# Altium integrated library Altium_WCAP-CSGP (rev20a).IntLib: 939 symbols (part 13 of 16)
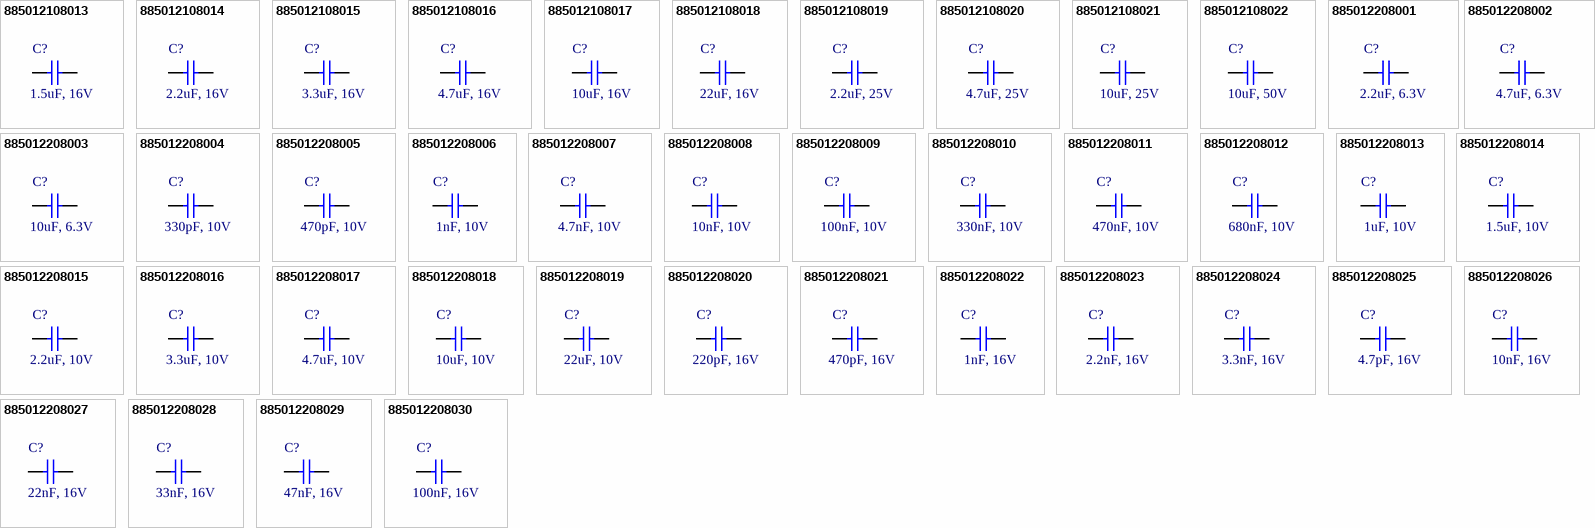
[diagram p39: symbols 885012108013 to 885012208030]

## 885012208026
designator C?, comment 10nF, 16V
WCAP-CSGP Multilayer Ceramic Chip Capacitor, General Purpose, size 1206, X7R, 10nF, 16V; Manufacturer Part Number: 885012208026; Manufacturer: Wurth Elektronik; Rated Voltage: 16VDC; Isolation Resistance: >=10GOhm; Capacitance Tolerance: +/-10%; Technical Reference: X7R1206103K016DFCT10000; ComponentLink1Description: Manufacturer; ComponentLink1URL: http://www.we-online.de; ComponentLink2Description: Datasheet; ComponentLink2URL: https://www.we-online.com/catalog/datasheet/885012208026.pdf; Operating Temperature: -55 to +125degC; Packaging: Tape and Reel; Published Date: May 2020; Ceramic Type: X7R; Dissipation Factor: =<3.5%; Height: 0.8mm; Mounting Technology: SMT; Size: 1206; Capacitance: 10nF
footprint WCAP-CSGP_1206_H=0.8mm
pins: 1, 2

## 885012208027
designator C?, comment 22nF, 16V
WCAP-CSGP Multilayer Ceramic Chip Capacitor, General Purpose, size 1206, X7R, 22nF, 16V; Manufacturer Part Number: 885012208027; Manufacturer: Wurth Elektronik; Rated Voltage: 16VDC; Isolation Resistance: >=10GOhm; Capacitance Tolerance: +/-10%; Technical Reference: X7R1206223K016DFCT10000; ComponentLink1Description: Manufacturer; ComponentLink1URL: http://www.we-online.de; ComponentLink2Description: Datasheet; ComponentLink2URL: https://www.we-online.com/catalog/datasheet/885012208027.pdf; Operating Temperature: -55 to +125degC; Packaging: Tape and Reel; Published Date: May 2020; Ceramic Type: X7R; Dissipation Factor: =<3.5%; Height: 0.8mm; Mounting Technology: SMT; Size: 1206; Capacitance: 22nF
footprint WCAP-CSGP_1206_H=0.8mm
pins: 1, 2

## 885012208028
designator C?, comment 33nF, 16V
WCAP-CSGP Multilayer Ceramic Chip Capacitor, General Purpose, size 1206, X7R, 33nF, 16V; Manufacturer Part Number: 885012208028; Manufacturer: Wurth Elektronik; Rated Voltage: 16VDC; Isolation Resistance: >=10GOhm; Capacitance Tolerance: +/-10%; Technical Reference: X7R1206333K016DFCT10000; ComponentLink1Description: Manufacturer; ComponentLink1URL: http://www.we-online.de; ComponentLink2Description: Datasheet; ComponentLink2URL: https://www.we-online.com/catalog/datasheet/885012208028.pdf; Operating Temperature: -55 to +125degC; Packaging: Tape and Reel; Published Date: May 2020; Ceramic Type: X7R; Dissipation Factor: =<3.5%; Height: 0.8mm; Mounting Technology: SMT; Size: 1206; Capacitance: 33nF
footprint WCAP-CSGP_1206_H=0.8mm
pins: 1, 2

## 885012208029
designator C?, comment 47nF, 16V
WCAP-CSGP Multilayer Ceramic Chip Capacitor, General Purpose, size 1206, X7R, 47nF, 16V; Manufacturer Part Number: 885012208029; Manufacturer: Wurth Elektronik; Rated Voltage: 16VDC; Isolation Resistance: >=10GOhm; Capacitance Tolerance: +/-10%; Technical Reference: X7R1206473K016DFCT10000; ComponentLink1Description: Manufacturer; ComponentLink1URL: http://www.we-online.de; ComponentLink2Description: Datasheet; ComponentLink2URL: https://www.we-online.com/catalog/datasheet/885012208029.pdf; Operating Temperature: -55 to +125degC; Packaging: Tape and Reel; Published Date: May 2020; Ceramic Type: X7R; Dissipation Factor: =<3.5%; Height: 0.8mm; Mounting Technology: SMT; Size: 1206; Capacitance: 47nF
footprint WCAP-CSGP_1206_H=0.8mm
pins: 1, 2

## 885012208030
designator C?, comment 100nF, 16V
WCAP-CSGP Multilayer Ceramic Chip Capacitor, General Purpose, size 1206, X7R, 100nF, 16V; Manufacturer Part Number: 885012208030; Manufacturer: Wurth Elektronik; Rated Voltage: 16VDC; Isolation Resistance: >=5GOhm; Capacitance Tolerance: +/-10%; Technical Reference: X7R1206104K016DFCT10000; ComponentLink1Description: Manufacturer; ComponentLink1URL: http://www.we-online.de; ComponentLink2Description: Datasheet; ComponentLink2URL: https://www.we-online.com/catalog/datasheet/885012208030.pdf; Operating Temperature: -55 to +125degC; Packaging: Tape and Reel; Published Date: May 2020; Ceramic Type: X7R; Dissipation Factor: =<3.5%; Height: 0.8mm; Mounting Technology: SMT; Size: 1206; Capacitance: 100nF
footprint WCAP-CSGP_1206_H=0.8mm
pins: 1, 2

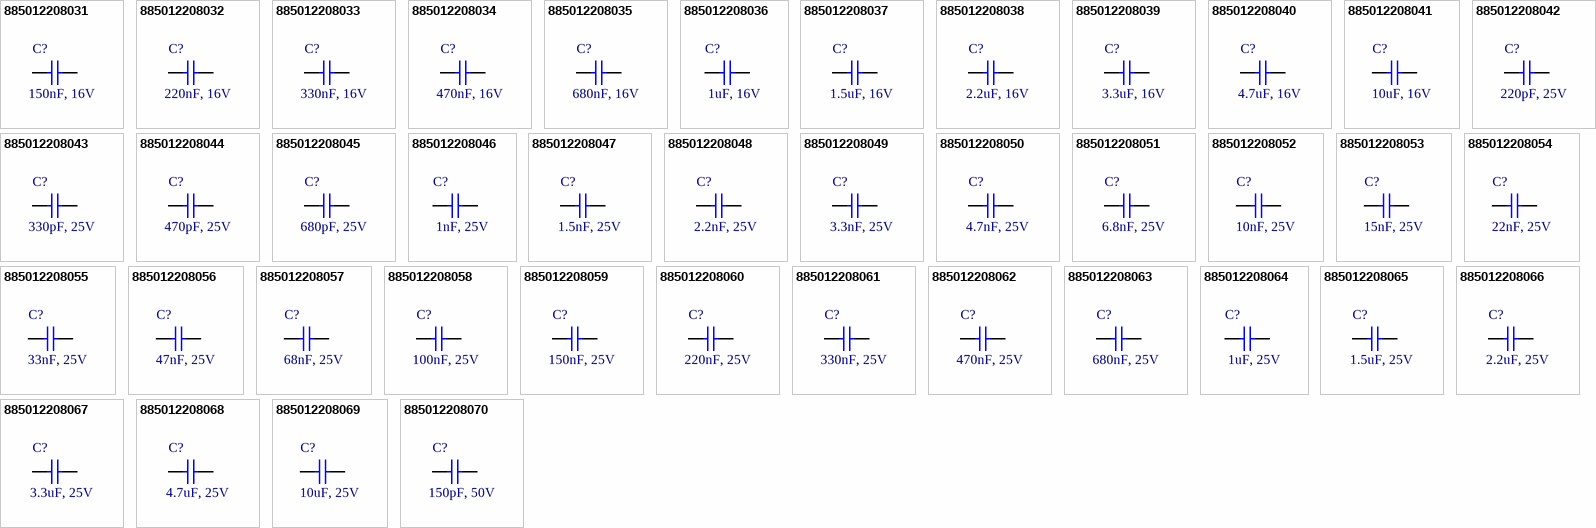
[diagram p20: symbols 885012208031 to 885012208070]

## 885012208031
designator C?, comment 150nF, 16V
WCAP-CSGP Multilayer Ceramic Chip Capacitor, General Purpose, size 1206, X7R, 150nF, 16V; Manufacturer Part Number: 885012208031; Manufacturer: Wurth Elektronik; Rated Voltage: 16VDC; Isolation Resistance: >=3.3GOhm; Capacitance Tolerance: +/-10%; Technical Reference: X7R1206154K016DFCT10000; ComponentLink1Description: Manufacturer; ComponentLink1URL: http://www.we-online.de; ComponentLink2Description: Datasheet; ComponentLink2URL: https://www.we-online.com/catalog/datasheet/885012208031.pdf; Operating Temperature: -55 to +125degC; Packaging: Tape and Reel; Published Date: May 2020; Ceramic Type: X7R; Dissipation Factor: =<3.5%; Height: 0.95mm; Mounting Technology: SMT; Size: 1206; Capacitance: 150nF
footprint WCAP-CSGP_1206_H=0.95mm
pins: 1, 2

## 885012208032
designator C?, comment 220nF, 16V
WCAP-CSGP Multilayer Ceramic Chip Capacitor, General Purpose, size 1206, X7R, 220nF, 16V; Manufacturer Part Number: 885012208032; Manufacturer: Wurth Elektronik; Rated Voltage: 16VDC; Isolation Resistance: >=2.3GOhm; Capacitance Tolerance: +/-10%; Technical Reference: X7R1206224K016DFCT10000; ComponentLink1Description: Manufacturer; ComponentLink1URL: http://www.we-online.de; ComponentLink2Description: Datasheet; ComponentLink2URL: https://www.we-online.com/catalog/datasheet/885012208032.pdf; Operating Temperature: -55 to +125degC; Packaging: Tape and Reel; Published Date: May 2020; Ceramic Type: X7R; Dissipation Factor: =<3.5%; Height: 0.95mm; Mounting Technology: SMT; Size: 1206; Capacitance: 220nF
footprint WCAP-CSGP_1206_H=0.95mm
pins: 1, 2

## 885012208033
designator C?, comment 330nF, 16V
WCAP-CSGP Multilayer Ceramic Chip Capacitor, General Purpose, size 1206, X7R, 330nF, 16V; Manufacturer Part Number: 885012208033; Manufacturer: Wurth Elektronik; Rated Voltage: 16VDC; Isolation Resistance: >=1.5GOhm; Capacitance Tolerance: +/-10%; Technical Reference: X7R1206334K016DFCT10000; ComponentLink1Description: Manufacturer; ComponentLink1URL: http://www.we-online.de; ComponentLink2Description: Datasheet; ComponentLink2URL: https://www.we-online.com/catalog/datasheet/885012208033.pdf; Operating Temperature: -55 to +125degC; Packaging: Tape and Reel; Published Date: May 2020; Ceramic Type: X7R; Dissipation Factor: =<3.5%; Height: 0.95mm; Mounting Technology: SMT; Size: 1206; Capacitance: 330nF
footprint WCAP-CSGP_1206_H=0.95mm
pins: 1, 2

## 885012208034
designator C?, comment 470nF, 16V
WCAP-CSGP Multilayer Ceramic Chip Capacitor, General Purpose, size 1206, X7R, 470nF, 16V; Manufacturer Part Number: 885012208034; Manufacturer: Wurth Elektronik; Rated Voltage: 16VDC; Isolation Resistance: >=1.1GOhm; Capacitance Tolerance: +/-10%; Technical Reference: X7R1206474K016DFCT10000; ComponentLink1Description: Manufacturer; ComponentLink1URL: http://www.we-online.de; ComponentLink2Description: Datasheet; ComponentLink2URL: https://www.we-online.com/catalog/datasheet/885012208034.pdf; Operating Temperature: -55 to +125degC; Packaging: Tape and Reel; Published Date: May 2020; Ceramic Type: X7R; Dissipation Factor: =<3.5%; Height: 1.15mm; Mounting Technology: SMT; Size: 1206; Capacitance: 470nF
footprint WCAP-CSGP_1206_H=1.15mm
pins: 1, 2

## 885012208035
designator C?, comment 680nF, 16V
WCAP-CSGP Multilayer Ceramic Chip Capacitor, General Purpose, size 1206, X7R, 680nF, 16V; Manufacturer Part Number: 885012208035; Manufacturer: Wurth Elektronik; Rated Voltage: 16VDC; Isolation Resistance: >=0.7GOhm; Capacitance Tolerance: +/-10%; Technical Reference: X7R1206684K016DFCT10000; ComponentLink1Description: Manufacturer; ComponentLink1URL: http://www.we-online.de; ComponentLink2Description: Datasheet; ComponentLink2URL: https://www.we-online.com/catalog/datasheet/885012208035.pdf; Operating Temperature: -55 to +125degC; Packaging: Tape and Reel; Published Date: May 2020; Ceramic Type: X7R; Dissipation Factor: =<3.5%; Height: 1.15mm; Mounting Technology: SMT; Size: 1206; Capacitance: 680nF
footprint WCAP-CSGP_1206_H=1.15mm
pins: 1, 2

## 885012208036
designator C?, comment 1uF, 16V
WCAP-CSGP Multilayer Ceramic Chip Capacitor, General Purpose, size 1206, X7R, 1uF, 16V; Manufacturer Part Number: 885012208036; Manufacturer: Wurth Elektronik; Rated Voltage: 16VDC; Isolation Resistance: >=0.5GOhm; Capacitance Tolerance: +/-10%; Technical Reference: X7R1206105K016DFCT10000; ComponentLink1Description: Manufacturer; ComponentLink1URL: http://www.we-online.de; ComponentLink2Description: Datasheet; ComponentLink2URL: https://www.we-online.com/catalog/datasheet/885012208036.pdf; Operating Temperature: -55 to +125degC; Packaging: Tape and Reel; Published Date: May 2020; Ceramic Type: X7R; Dissipation Factor: =<3.5%; Height: 1.15mm; Mounting Technology: SMT; Size: 1206; Capacitance: 1uF
footprint WCAP-CSGP_1206_H=1.15mm
pins: 1, 2

## 885012208037
designator C?, comment 1.5uF, 16V
WCAP-CSGP Multilayer Ceramic Chip Capacitor, General Purpose, size 1206, X7R, 1.5uF, 16V; Manufacturer Part Number: 885012208037; Manufacturer: Wurth Elektronik; Rated Voltage: 16VDC; Isolation Resistance: >=0.3GOhm; Capacitance Tolerance: +/-10%; Technical Reference: X7R1206155K016DFCT10000; ComponentLink1Description: Manufacturer; ComponentLink1URL: http://www.we-online.de; ComponentLink2Description: Datasheet; ComponentLink2URL: https://www.we-online.com/catalog/datasheet/885012208037.pdf; Operating Temperature: -55 to +125degC; Packaging: Tape and Reel; Published Date: May 2020; Ceramic Type: X7R; Dissipation Factor: =<3.5%; Height: 1.15mm; Mounting Technology: SMT; Size: 1206; Capacitance: 1.5uF
footprint WCAP-CSGP_1206_H=1.15mm
pins: 1, 2

## 885012208038
designator C?, comment 2.2uF, 16V
WCAP-CSGP Multilayer Ceramic Chip Capacitor, General Purpose, size 1206, X7R, 2.2uF, 16V; Manufacturer Part Number: 885012208038; Manufacturer: Wurth Elektronik; Rated Voltage: 16VDC; Isolation Resistance: >=0.2GOhm; Capacitance Tolerance: +/-10%; Technical Reference: X7R1206225K016DFCT10000; ComponentLink1Description: Manufacturer; ComponentLink1URL: http://www.we-online.de; ComponentLink2Description: Datasheet; ComponentLink2URL: https://www.we-online.com/catalog/datasheet/885012208038.pdf; Operating Temperature: -55 to +125degC; Packaging: Tape and Reel; Published Date: May 2020; Ceramic Type: X7R; Dissipation Factor: =<5%; Height: 1.15mm; Mounting Technology: SMT; Size: 1206; Capacitance: 2.2uF
footprint WCAP-CSGP_1206_H=1.15mm
pins: 1, 2

## 885012208039
designator C?, comment 3.3uF, 16V
WCAP-CSGP Multilayer Ceramic Chip Capacitor, General Purpose, size 1206, X7R, 3.3uF, 16V; Manufacturer Part Number: 885012208039; Manufacturer: Wurth Elektronik; Rated Voltage: 16VDC; Isolation Resistance: >=0.2GOhm; Capacitance Tolerance: +/-10%; Technical Reference: X7R1206335K016DFCT10000; ComponentLink1Description: Manufacturer; ComponentLink1URL: http://www.we-online.de; ComponentLink2Description: Datasheet; ComponentLink2URL: https://www.we-online.com/catalog/datasheet/885012208039.pdf; Operating Temperature: -55 to +125degC; Packaging: Tape and Reel; Published Date: May 2020; Ceramic Type: X7R; Dissipation Factor: =<5%; Height: 1.6mm; Mounting Technology: SMT; Size: 1206; Capacitance: 3.3uF
footprint WCAP-CSGP_1206_H=1.6mm
pins: 1, 2

## 885012208040
designator C?, comment 4.7uF, 16V
WCAP-CSGP Multilayer Ceramic Chip Capacitor, General Purpose, size 1206, X7R, 4.7uF, 16V; Manufacturer Part Number: 885012208040; Manufacturer: Wurth Elektronik; Rated Voltage: 16VDC; Isolation Resistance: >=0.1GOhm; Capacitance Tolerance: +/-10%; Technical Reference: X7R1206475K016DFCT10000; ComponentLink1Description: Manufacturer; ComponentLink1URL: http://www.we-online.de; ComponentLink2Description: Datasheet; ComponentLink2URL: https://www.we-online.com/catalog/datasheet/885012208040.pdf; Operating Temperature: -55 to +125degC; Packaging: Tape and Reel; Published Date: May 2020; Ceramic Type: X7R; Dissipation Factor: =<10%; Height: 1.6mm; Mounting Technology: SMT; Size: 1206; Capacitance: 4.7uF
footprint WCAP-CSGP_1206_H=1.6mm
pins: 1, 2

## 885012208041
designator C?, comment 10uF, 16V
WCAP-CSGP Multilayer Ceramic Chip Capacitor, General Purpose, size 1206, X7R, 10uF, 16V; Manufacturer Part Number: 885012208041; Manufacturer: Wurth Elektronik; Rated Voltage: 16VDC; Isolation Resistance: >=0.01GOhm; Capacitance Tolerance: +/-10%; Technical Reference: X7R1206106K016DFCT10000; ComponentLink1Description: Manufacturer; ComponentLink1URL: http://www.we-online.de; ComponentLink2Description: Datasheet; ComponentLink2URL: https://www.we-online.com/catalog/datasheet/885012208041.pdf; Operating Temperature: -55 to +125degC; Packaging: Tape and Reel; Published Date: May 2020; Ceramic Type: X7R; Dissipation Factor: =<10%; Height: 1.6mm; Mounting Technology: SMT; Size: 1206; Capacitance: 10uF
footprint WCAP-CSGP_1206_H=1.6mm
pins: 1, 2

## 885012208042
designator C?, comment 220pF, 25V
WCAP-CSGP Multilayer Ceramic Chip Capacitor, General Purpose, size 1206, X7R, 220pF, 25V; Manufacturer Part Number: 885012208042; Manufacturer: Wurth Elektronik; Rated Voltage: 25VDC; Isolation Resistance: >=10GOhm; Capacitance Tolerance: +/-10%; Technical Reference: X7R1206221K025DFCT10000; ComponentLink1Description: Manufacturer; ComponentLink1URL: http://www.we-online.de; ComponentLink2Description: Datasheet; ComponentLink2URL: https://www.we-online.com/catalog/datasheet/885012208042.pdf; Operating Temperature: -55 to +125degC; Packaging: Tape and Reel; Published Date: May 2020; Ceramic Type: X7R; Dissipation Factor: =<3.5%; Height: 0.8mm; Mounting Technology: SMT; Size: 1206; Capacitance: 220pF
footprint WCAP-CSGP_1206_H=0.8mm
pins: 1, 2

## 885012208043
designator C?, comment 330pF, 25V
WCAP-CSGP Multilayer Ceramic Chip Capacitor, General Purpose, size 1206, X7R, 330pF, 25V; Manufacturer Part Number: 885012208043; Manufacturer: Wurth Elektronik; Rated Voltage: 25VDC; Isolation Resistance: >=10GOhm; Capacitance Tolerance: +/-10%; Technical Reference: X7R1206331K025DFCT10000; ComponentLink1Description: Manufacturer; ComponentLink1URL: http://www.we-online.de; ComponentLink2Description: Datasheet; ComponentLink2URL: https://www.we-online.com/catalog/datasheet/885012208043.pdf; Operating Temperature: -55 to +125degC; Packaging: Tape and Reel; Published Date: May 2020; Ceramic Type: X7R; Dissipation Factor: =<3.5%; Height: 0.8mm; Mounting Technology: SMT; Size: 1206; Capacitance: 330pF
footprint WCAP-CSGP_1206_H=0.8mm
pins: 1, 2

## 885012208044
designator C?, comment 470pF, 25V
WCAP-CSGP Multilayer Ceramic Chip Capacitor, General Purpose, size 1206, X7R, 470pF, 25V; Manufacturer Part Number: 885012208044; Manufacturer: Wurth Elektronik; Rated Voltage: 25VDC; Isolation Resistance: >=10GOhm; Capacitance Tolerance: +/-10%; Technical Reference: X7R1206471K025DFCT10000; ComponentLink1Description: Manufacturer; ComponentLink1URL: http://www.we-online.de; ComponentLink2Description: Datasheet; ComponentLink2URL: https://www.we-online.com/catalog/datasheet/885012208044.pdf; Operating Temperature: -55 to +125degC; Packaging: Tape and Reel; Published Date: May 2020; Ceramic Type: X7R; Dissipation Factor: =<3.5%; Height: 0.8mm; Mounting Technology: SMT; Size: 1206; Capacitance: 470pF
footprint WCAP-CSGP_1206_H=0.8mm
pins: 1, 2

## 885012208045
designator C?, comment 680pF, 25V
WCAP-CSGP Multilayer Ceramic Chip Capacitor, General Purpose, size 1206, X7R, 680pF, 25V; Manufacturer Part Number: 885012208045; Manufacturer: Wurth Elektronik; Rated Voltage: 25VDC; Isolation Resistance: >=10GOhm; Capacitance Tolerance: +/-10%; Technical Reference: X7R1206681K025DFCT10000; ComponentLink1Description: Manufacturer; ComponentLink1URL: http://www.we-online.de; ComponentLink2Description: Datasheet; ComponentLink2URL: https://www.we-online.com/catalog/datasheet/885012208045.pdf; Operating Temperature: -55 to +125degC; Packaging: Tape and Reel; Published Date: May 2020; Ceramic Type: X7R; Dissipation Factor: =<3.5%; Height: 0.8mm; Mounting Technology: SMT; Size: 1206; Capacitance: 680pF
footprint WCAP-CSGP_1206_H=0.8mm
pins: 1, 2

## 885012208046
designator C?, comment 1nF, 25V
WCAP-CSGP Multilayer Ceramic Chip Capacitor, General Purpose, size 1206, X7R, 1nF, 25V; Manufacturer Part Number: 885012208046; Manufacturer: Wurth Elektronik; Rated Voltage: 25VDC; Isolation Resistance: >=10GOhm; Capacitance Tolerance: +/-10%; Technical Reference: X7R1206102K025DFCT10000; ComponentLink1Description: Manufacturer; ComponentLink1URL: http://www.we-online.de; ComponentLink2Description: Datasheet; ComponentLink2URL: https://www.we-online.com/catalog/datasheet/885012208046.pdf; Operating Temperature: -55 to +125degC; Packaging: Tape and Reel; Published Date: May 2020; Ceramic Type: X7R; Dissipation Factor: =<3.5%; Height: 0.8mm; Mounting Technology: SMT; Size: 1206; Capacitance: 1nF
footprint WCAP-CSGP_1206_H=0.8mm
pins: 1, 2

## 885012208047
designator C?, comment 1.5nF, 25V
WCAP-CSGP Multilayer Ceramic Chip Capacitor, General Purpose, size 1206, X7R, 1.5nF, 25V; Manufacturer Part Number: 885012208047; Manufacturer: Wurth Elektronik; Rated Voltage: 25VDC; Isolation Resistance: >=10GOhm; Capacitance Tolerance: +/-10%; Technical Reference: X7R1206152K025DFCT10000; ComponentLink1Description: Manufacturer; ComponentLink1URL: http://www.we-online.de; ComponentLink2Description: Datasheet; ComponentLink2URL: https://www.we-online.com/catalog/datasheet/885012208047.pdf; Operating Temperature: -55 to +125degC; Packaging: Tape and Reel; Published Date: May 2020; Ceramic Type: X7R; Dissipation Factor: =<3.5%; Height: 0.8mm; Mounting Technology: SMT; Size: 1206; Capacitance: 1.5nF
footprint WCAP-CSGP_1206_H=0.8mm
pins: 1, 2

## 885012208048
designator C?, comment 2.2nF, 25V
WCAP-CSGP Multilayer Ceramic Chip Capacitor, General Purpose, size 1206, X7R, 2.2nF, 25V; Manufacturer Part Number: 885012208048; Manufacturer: Wurth Elektronik; Rated Voltage: 25VDC; Isolation Resistance: >=10GOhm; Capacitance Tolerance: +/-10%; Technical Reference: X7R1206222K025DFCT10000; ComponentLink1Description: Manufacturer; ComponentLink1URL: http://www.we-online.de; ComponentLink2Description: Datasheet; ComponentLink2URL: https://www.we-online.com/catalog/datasheet/885012208048.pdf; Operating Temperature: -55 to +125degC; Packaging: Tape and Reel; Published Date: May 2020; Ceramic Type: X7R; Dissipation Factor: =<3.5%; Height: 0.8mm; Mounting Technology: SMT; Size: 1206; Capacitance: 2.2nF
footprint WCAP-CSGP_1206_H=0.8mm
pins: 1, 2

## 885012208049
designator C?, comment 3.3nF, 25V
WCAP-CSGP Multilayer Ceramic Chip Capacitor, General Purpose, size 1206, X7R, 3.3nF, 25V; Manufacturer Part Number: 885012208049; Manufacturer: Wurth Elektronik; Rated Voltage: 25VDC; Isolation Resistance: >=10GOhm; Capacitance Tolerance: +/-10%; Technical Reference: X7R1206332K025DFCT10000; ComponentLink1Description: Manufacturer; ComponentLink1URL: http://www.we-online.de; ComponentLink2Description: Datasheet; ComponentLink2URL: https://www.we-online.com/catalog/datasheet/885012208049.pdf; Operating Temperature: -55 to +125degC; Packaging: Tape and Reel; Published Date: May 2020; Ceramic Type: X7R; Dissipation Factor: =<3.5%; Height: 0.8mm; Mounting Technology: SMT; Size: 1206; Capacitance: 3.3nF
footprint WCAP-CSGP_1206_H=0.8mm
pins: 1, 2

## 885012208050
designator C?, comment 4.7nF, 25V
WCAP-CSGP Multilayer Ceramic Chip Capacitor, General Purpose, size 1206, X7R, 4.7nF, 25V; Manufacturer Part Number: 885012208050; Manufacturer: Wurth Elektronik; Rated Voltage: 25VDC; Isolation Resistance: >=10GOhm; Capacitance Tolerance: +/-10%; Technical Reference: X7R1206472K025DFCT10000; ComponentLink1Description: Manufacturer; ComponentLink1URL: http://www.we-online.de; ComponentLink2Description: Datasheet; ComponentLink2URL: https://www.we-online.com/catalog/datasheet/885012208050.pdf; Operating Temperature: -55 to +125degC; Packaging: Tape and Reel; Published Date: May 2020; Ceramic Type: X7R; Dissipation Factor: =<3.5%; Height: 0.8mm; Mounting Technology: SMT; Size: 1206; Capacitance: 4.7nF
footprint WCAP-CSGP_1206_H=0.8mm
pins: 1, 2

## 885012208051
designator C?, comment 6.8nF, 25V
WCAP-CSGP Multilayer Ceramic Chip Capacitor, General Purpose, size 1206, X7R, 6.8nF, 25V; Manufacturer Part Number: 885012208051; Manufacturer: Wurth Elektronik; Rated Voltage: 25VDC; Isolation Resistance: >=10GOhm; Capacitance Tolerance: +/-10%; Technical Reference: X7R1206682K025DFCT10000; ComponentLink1Description: Manufacturer; ComponentLink1URL: http://www.we-online.de; ComponentLink2Description: Datasheet; ComponentLink2URL: https://www.we-online.com/catalog/datasheet/885012208051.pdf; Operating Temperature: -55 to +125degC; Packaging: Tape and Reel; Published Date: May 2020; Ceramic Type: X7R; Dissipation Factor: =<3.5%; Height: 0.8mm; Mounting Technology: SMT; Size: 1206; Capacitance: 6.8nF
footprint WCAP-CSGP_1206_H=0.8mm
pins: 1, 2

## 885012208052
designator C?, comment 10nF, 25V
WCAP-CSGP Multilayer Ceramic Chip Capacitor, General Purpose, size 1206, X7R, 10nF, 25V; Manufacturer Part Number: 885012208052; Manufacturer: Wurth Elektronik; Rated Voltage: 25VDC; Isolation Resistance: >=10GOhm; Capacitance Tolerance: +/-10%; Technical Reference: X7R1206103K025DFCT10000; ComponentLink1Description: Manufacturer; ComponentLink1URL: http://www.we-online.de; ComponentLink2Description: Datasheet; ComponentLink2URL: https://www.we-online.com/catalog/datasheet/885012208052.pdf; Operating Temperature: -55 to +125degC; Packaging: Tape and Reel; Published Date: May 2020; Ceramic Type: X7R; Dissipation Factor: =<3.5%; Height: 0.8mm; Mounting Technology: SMT; Size: 1206; Capacitance: 10nF
footprint WCAP-CSGP_1206_H=0.8mm
pins: 1, 2

## 885012208053
designator C?, comment 15nF, 25V
WCAP-CSGP Multilayer Ceramic Chip Capacitor, General Purpose, size 1206, X7R, 15nF, 25V; Manufacturer Part Number: 885012208053; Manufacturer: Wurth Elektronik; Rated Voltage: 25VDC; Isolation Resistance: >=10GOhm; Capacitance Tolerance: +/-10%; Technical Reference: X7R1206153K025DFCT10000; ComponentLink1Description: Manufacturer; ComponentLink1URL: http://www.we-online.de; ComponentLink2Description: Datasheet; ComponentLink2URL: https://www.we-online.com/catalog/datasheet/885012208053.pdf; Operating Temperature: -55 to +125degC; Packaging: Tape and Reel; Published Date: May 2020; Ceramic Type: X7R; Dissipation Factor: =<3.5%; Height: 0.8mm; Mounting Technology: SMT; Size: 1206; Capacitance: 15nF
footprint WCAP-CSGP_1206_H=0.8mm
pins: 1, 2

## 885012208054
designator C?, comment 22nF, 25V
WCAP-CSGP Multilayer Ceramic Chip Capacitor, General Purpose, size 1206, X7R, 22nF, 25V; Manufacturer Part Number: 885012208054; Manufacturer: Wurth Elektronik; Rated Voltage: 25VDC; Isolation Resistance: >=10GOhm; Capacitance Tolerance: +/-10%; Technical Reference: X7R1206223K025DFCT10000; ComponentLink1Description: Manufacturer; ComponentLink1URL: http://www.we-online.de; ComponentLink2Description: Datasheet; ComponentLink2URL: https://www.we-online.com/catalog/datasheet/885012208054.pdf; Operating Temperature: -55 to +125degC; Packaging: Tape and Reel; Published Date: May 2020; Ceramic Type: X7R; Dissipation Factor: =<3.5%; Height: 0.8mm; Mounting Technology: SMT; Size: 1206; Capacitance: 22nF
footprint WCAP-CSGP_1206_H=0.8mm
pins: 1, 2

## 885012208055
designator C?, comment 33nF, 25V
WCAP-CSGP Multilayer Ceramic Chip Capacitor, General Purpose, size 1206, X7R, 33nF, 25V; Manufacturer Part Number: 885012208055; Manufacturer: Wurth Elektronik; Rated Voltage: 25VDC; Isolation Resistance: >=10GOhm; Capacitance Tolerance: +/-10%; Technical Reference: X7R1206333K025DFCT10000; ComponentLink1Description: Manufacturer; ComponentLink1URL: http://www.we-online.de; ComponentLink2Description: Datasheet; ComponentLink2URL: https://www.we-online.com/catalog/datasheet/885012208055.pdf; Operating Temperature: -55 to +125degC; Packaging: Tape and Reel; Published Date: May 2020; Ceramic Type: X7R; Dissipation Factor: =<3.5%; Height: 0.8mm; Mounting Technology: SMT; Size: 1206; Capacitance: 33nF
footprint WCAP-CSGP_1206_H=0.8mm
pins: 1, 2

## 885012208056
designator C?, comment 47nF, 25V
WCAP-CSGP Multilayer Ceramic Chip Capacitor, General Purpose, size 1206, X7R, 47nF, 25V; Manufacturer Part Number: 885012208056; Manufacturer: Wurth Elektronik; Rated Voltage: 25VDC; Isolation Resistance: >=10GOhm; Capacitance Tolerance: +/-10%; Technical Reference: X7R1206473K025DFCT10000; ComponentLink1Description: Manufacturer; ComponentLink1URL: http://www.we-online.de; ComponentLink2Description: Datasheet; ComponentLink2URL: https://www.we-online.com/catalog/datasheet/885012208056.pdf; Operating Temperature: -55 to +125degC; Packaging: Tape and Reel; Published Date: May 2020; Ceramic Type: X7R; Dissipation Factor: =<3.5%; Height: 0.8mm; Mounting Technology: SMT; Size: 1206; Capacitance: 47nF
footprint WCAP-CSGP_1206_H=0.8mm
pins: 1, 2

## 885012208057
designator C?, comment 68nF, 25V
WCAP-CSGP Multilayer Ceramic Chip Capacitor, General Purpose, size 1206, X7R, 68nF, 25V; Manufacturer Part Number: 885012208057; Manufacturer: Wurth Elektronik; Rated Voltage: 25VDC; Isolation Resistance: >=7.4GOhm; Capacitance Tolerance: +/-10%; Technical Reference: X7R1206683K025DFCT10000; ComponentLink1Description: Manufacturer; ComponentLink1URL: http://www.we-online.de; ComponentLink2Description: Datasheet; ComponentLink2URL: https://www.we-online.com/catalog/datasheet/885012208057.pdf; Operating Temperature: -55 to +125degC; Packaging: Tape and Reel; Published Date: May 2020; Ceramic Type: X7R; Dissipation Factor: =<3.5%; Height: 0.8mm; Mounting Technology: SMT; Size: 1206; Capacitance: 68nF
footprint WCAP-CSGP_1206_H=0.8mm
pins: 1, 2

## 885012208058
designator C?, comment 100nF, 25V
WCAP-CSGP Multilayer Ceramic Chip Capacitor, General Purpose, size 1206, X7R, 100nF, 25V; Manufacturer Part Number: 885012208058; Manufacturer: Wurth Elektronik; Rated Voltage: 25VDC; Isolation Resistance: >=5GOhm; Capacitance Tolerance: +/-10%; Technical Reference: X7R1206104K025DFCT10000; ComponentLink1Description: Manufacturer; ComponentLink1URL: http://www.we-online.de; ComponentLink2Description: Datasheet; ComponentLink2URL: https://www.we-online.com/catalog/datasheet/885012208058.pdf; Operating Temperature: -55 to +125degC; Packaging: Tape and Reel; Published Date: May 2020; Ceramic Type: X7R; Dissipation Factor: =<3.5%; Height: 0.8mm; Mounting Technology: SMT; Size: 1206; Capacitance: 100nF
footprint WCAP-CSGP_1206_H=0.8mm
pins: 1, 2

## 885012208059
designator C?, comment 150nF, 25V
WCAP-CSGP Multilayer Ceramic Chip Capacitor, General Purpose, size 1206, X7R, 150nF, 25V; Manufacturer Part Number: 885012208059; Manufacturer: Wurth Elektronik; Rated Voltage: 25VDC; Isolation Resistance: >=3.3GOhm; Capacitance Tolerance: +/-10%; Technical Reference: X7R1206154K025DFCT10000; ComponentLink1Description: Manufacturer; ComponentLink1URL: http://www.we-online.de; ComponentLink2Description: Datasheet; ComponentLink2URL: https://www.we-online.com/catalog/datasheet/885012208059.pdf; Operating Temperature: -55 to +125degC; Packaging: Tape and Reel; Published Date: May 2020; Ceramic Type: X7R; Dissipation Factor: =<3.5%; Height: 0.95mm; Mounting Technology: SMT; Size: 1206; Capacitance: 150nF
footprint WCAP-CSGP_1206_H=0.95mm
pins: 1, 2

## 885012208060
designator C?, comment 220nF, 25V
WCAP-CSGP Multilayer Ceramic Chip Capacitor, General Purpose, size 1206, X7R, 220nF, 25V; Manufacturer Part Number: 885012208060; Manufacturer: Wurth Elektronik; Rated Voltage: 25VDC; Isolation Resistance: >=2.3GOhm; Capacitance Tolerance: +/-10%; Technical Reference: X7R1206224K025DFCT10000; ComponentLink1Description: Manufacturer; ComponentLink1URL: http://www.we-online.de; ComponentLink2Description: Datasheet; ComponentLink2URL: https://www.we-online.com/catalog/datasheet/885012208060.pdf; Operating Temperature: -55 to +125degC; Packaging: Tape and Reel; Published Date: May 2020; Ceramic Type: X7R; Dissipation Factor: =<3.5%; Height: 0.95mm; Mounting Technology: SMT; Size: 1206; Capacitance: 220nF
footprint WCAP-CSGP_1206_H=0.95mm
pins: 1, 2

## 885012208061
designator C?, comment 330nF, 25V
WCAP-CSGP Multilayer Ceramic Chip Capacitor, General Purpose, size 1206, X7R, 330nF, 25V; Manufacturer Part Number: 885012208061; Manufacturer: Wurth Elektronik; Rated Voltage: 25VDC; Isolation Resistance: >=1.5GOhm; Capacitance Tolerance: +/-10%; Technical Reference: X7R1206334K025DFCT10000; ComponentLink1Description: Manufacturer; ComponentLink1URL: http://www.we-online.de; ComponentLink2Description: Datasheet; ComponentLink2URL: https://www.we-online.com/catalog/datasheet/885012208061.pdf; Operating Temperature: -55 to +125degC; Packaging: Tape and Reel; Published Date: May 2020; Ceramic Type: X7R; Dissipation Factor: =<3.5%; Height: 0.95mm; Mounting Technology: SMT; Size: 1206; Capacitance: 330nF
footprint WCAP-CSGP_1206_H=0.95mm
pins: 1, 2

## 885012208062
designator C?, comment 470nF, 25V
WCAP-CSGP Multilayer Ceramic Chip Capacitor, General Purpose, size 1206, X7R, 470nF, 25V; Manufacturer Part Number: 885012208062; Manufacturer: Wurth Elektronik; Rated Voltage: 25VDC; Isolation Resistance: >=1.1GOhm; Capacitance Tolerance: +/-10%; Technical Reference: X7R1206474K025DFCT10000; ComponentLink1Description: Manufacturer; ComponentLink1URL: http://www.we-online.de; ComponentLink2Description: Datasheet; ComponentLink2URL: https://www.we-online.com/catalog/datasheet/885012208062.pdf; Operating Temperature: -55 to +125degC; Packaging: Tape and Reel; Published Date: May 2020; Ceramic Type: X7R; Dissipation Factor: =<3.5%; Height: 1.15mm; Mounting Technology: SMT; Size: 1206; Capacitance: 470nF
footprint WCAP-CSGP_1206_H=1.15mm
pins: 1, 2

## 885012208063
designator C?, comment 680nF, 25V
WCAP-CSGP Multilayer Ceramic Chip Capacitor, General Purpose, size 1206, X7R, 680nF, 25V; Manufacturer Part Number: 885012208063; Manufacturer: Wurth Elektronik; Rated Voltage: 25VDC; Isolation Resistance: >=0.7GOhm; Capacitance Tolerance: +/-10%; Technical Reference: X7R1206684K025DFCT10000; ComponentLink1Description: Manufacturer; ComponentLink1URL: http://www.we-online.de; ComponentLink2Description: Datasheet; ComponentLink2URL: https://www.we-online.com/catalog/datasheet/885012208063.pdf; Operating Temperature: -55 to +125degC; Packaging: Tape and Reel; Published Date: May 2020; Ceramic Type: X7R; Dissipation Factor: =<3.5%; Height: 1.15mm; Mounting Technology: SMT; Size: 1206; Capacitance: 680nF
footprint WCAP-CSGP_1206_H=1.15mm
pins: 1, 2

## 885012208064
designator C?, comment 1uF, 25V
WCAP-CSGP Multilayer Ceramic Chip Capacitor, General Purpose, size 1206, X7R, 1uF, 25V; Manufacturer Part Number: 885012208064; Manufacturer: Wurth Elektronik; Rated Voltage: 25VDC; Isolation Resistance: >=0.5GOhm; Capacitance Tolerance: +/-10%; Technical Reference: X7R1206105K025DFCT10000; ComponentLink1Description: Manufacturer; ComponentLink1URL: http://www.we-online.de; ComponentLink2Description: Datasheet; ComponentLink2URL: https://www.we-online.com/catalog/datasheet/885012208064.pdf; Operating Temperature: -55 to +125degC; Packaging: Tape and Reel; Published Date: May 2020; Ceramic Type: X7R; Dissipation Factor: =<3.5%; Height: 1.15mm; Mounting Technology: SMT; Size: 1206; Capacitance: 1uF
footprint WCAP-CSGP_1206_H=1.15mm
pins: 1, 2

## 885012208065
designator C?, comment 1.5uF, 25V
WCAP-CSGP Multilayer Ceramic Chip Capacitor, General Purpose, size 1206, X7R, 1.5uF, 25V; Manufacturer Part Number: 885012208065; Manufacturer: Wurth Elektronik; Rated Voltage: 25VDC; Isolation Resistance: >=0.3GOhm; Capacitance Tolerance: +/-10%; Technical Reference: X7R1206155K025DFCT10000; ComponentLink1Description: Manufacturer; ComponentLink1URL: http://www.we-online.de; ComponentLink2Description: Datasheet; ComponentLink2URL: https://www.we-online.com/catalog/datasheet/885012208065.pdf; Operating Temperature: -55 to +125degC; Packaging: Tape and Reel; Published Date: May 2020; Ceramic Type: X7R; Dissipation Factor: =<3.5%; Height: 1.6mm; Mounting Technology: SMT; Size: 1206; Capacitance: 1.5uF
footprint WCAP-CSGP_1206_H=1.6mm
pins: 1, 2

## 885012208066
designator C?, comment 2.2uF, 25V
WCAP-CSGP Multilayer Ceramic Chip Capacitor, General Purpose, size 1206, X7R, 2.2uF, 25V; Manufacturer Part Number: 885012208066; Manufacturer: Wurth Elektronik; Rated Voltage: 25VDC; Isolation Resistance: >=0.2GOhm; Capacitance Tolerance: +/-10%; Technical Reference: X7R1206225K025DFCT10000; ComponentLink1Description: Manufacturer; ComponentLink1URL: http://www.we-online.de; ComponentLink2Description: Datasheet; ComponentLink2URL: https://www.we-online.com/catalog/datasheet/885012208066.pdf; Operating Temperature: -55 to +125degC; Packaging: Tape and Reel; Published Date: May 2020; Ceramic Type: X7R; Dissipation Factor: =<3.5%; Height: 1.6mm; Mounting Technology: SMT; Size: 1206; Capacitance: 2.2uF
footprint WCAP-CSGP_1206_H=1.6mm
pins: 1, 2

## 885012208067
designator C?, comment 3.3uF, 25V
WCAP-CSGP Multilayer Ceramic Chip Capacitor, General Purpose, size 1206, X7R, 3.3uF, 25V; Manufacturer Part Number: 885012208067; Manufacturer: Wurth Elektronik; Rated Voltage: 25VDC; Isolation Resistance: >=0.2GOhm; Capacitance Tolerance: +/-10%; Technical Reference: X7R1206335K025DFCT10000; ComponentLink1Description: Manufacturer; ComponentLink1URL: http://www.we-online.de; ComponentLink2Description: Datasheet; ComponentLink2URL: https://www.we-online.com/catalog/datasheet/885012208067.pdf; Operating Temperature: -55 to +125degC; Packaging: Tape and Reel; Published Date: May 2020; Ceramic Type: X7R; Dissipation Factor: =<3.5%; Height: 1.6mm; Mounting Technology: SMT; Size: 1206; Capacitance: 3.3uF
footprint WCAP-CSGP_1206_H=1.6mm
pins: 1, 2

## 885012208068
designator C?, comment 4.7uF, 25V
WCAP-CSGP Multilayer Ceramic Chip Capacitor, General Purpose, size 1206, X7R, 4.7uF, 25V; Manufacturer Part Number: 885012208068; Manufacturer: Wurth Elektronik; Rated Voltage: 25VDC; Isolation Resistance: >=0.1GOhm; Capacitance Tolerance: +/-10%; Technical Reference: X7R1206475K025DFCT10000; ComponentLink1Description: Manufacturer; ComponentLink1URL: http://www.we-online.de; ComponentLink2Description: Datasheet; ComponentLink2URL: https://www.we-online.com/catalog/datasheet/885012208068.pdf; Operating Temperature: -55 to +125degC; Packaging: Tape and Reel; Published Date: May 2020; Ceramic Type: X7R; Dissipation Factor: =<7%; Height: 1.6mm; Mounting Technology: SMT; Size: 1206; Capacitance: 4.7uF
footprint WCAP-CSGP_1206_H=1.6mm
pins: 1, 2

## 885012208069
designator C?, comment 10uF, 25V
WCAP-CSGP Multilayer Ceramic Chip Capacitor, General Purpose, size 1206, X7R, 10uF, 25V; Manufacturer Part Number: 885012208069; Manufacturer: Wurth Elektronik; Rated Voltage: 25VDC; Isolation Resistance: >=0.01GOhm; Capacitance Tolerance: +/-10%; Technical Reference: X7R1206106K025DFCT10000; ComponentLink1Description: Manufacturer; ComponentLink1URL: http://www.we-online.de; ComponentLink2Description: Datasheet; ComponentLink2URL: https://www.we-online.com/catalog/datasheet/885012208069.pdf; Operating Temperature: -55 to +125degC; Packaging: Tape and Reel; Published Date: May 2020; Ceramic Type: X7R; Dissipation Factor: =<10%; Height: 1.6mm; Mounting Technology: SMT; Size: 1206; Capacitance: 10uF
footprint WCAP-CSGP_1206_H=1.6mm
pins: 1, 2

## 885012208070
designator C?, comment 150pF, 50V
WCAP-CSGP Multilayer Ceramic Chip Capacitor, General Purpose, size 1206, X7R, 150pF, 50V; Manufacturer Part Number: 885012208070; Manufacturer: Wurth Elektronik; Rated Voltage: 50VDC; Isolation Resistance: >=10GOhm; Capacitance Tolerance: +/-10%; Technical Reference: X7R1206151K050DFCT10000; ComponentLink1Description: Manufacturer; ComponentLink1URL: http://www.we-online.de; ComponentLink2Description: Datasheet; ComponentLink2URL: https://www.we-online.com/catalog/datasheet/885012208070.pdf; Operating Temperature: -55 to +125degC; Packaging: Tape and Reel; Published Date: May 2020; Ceramic Type: X7R; Dissipation Factor: =<2.5%; Height: 0.8mm; Mounting Technology: SMT; Size: 1206; Capacitance: 150pF
footprint WCAP-CSGP_1206_H=0.8mm
pins: 1, 2

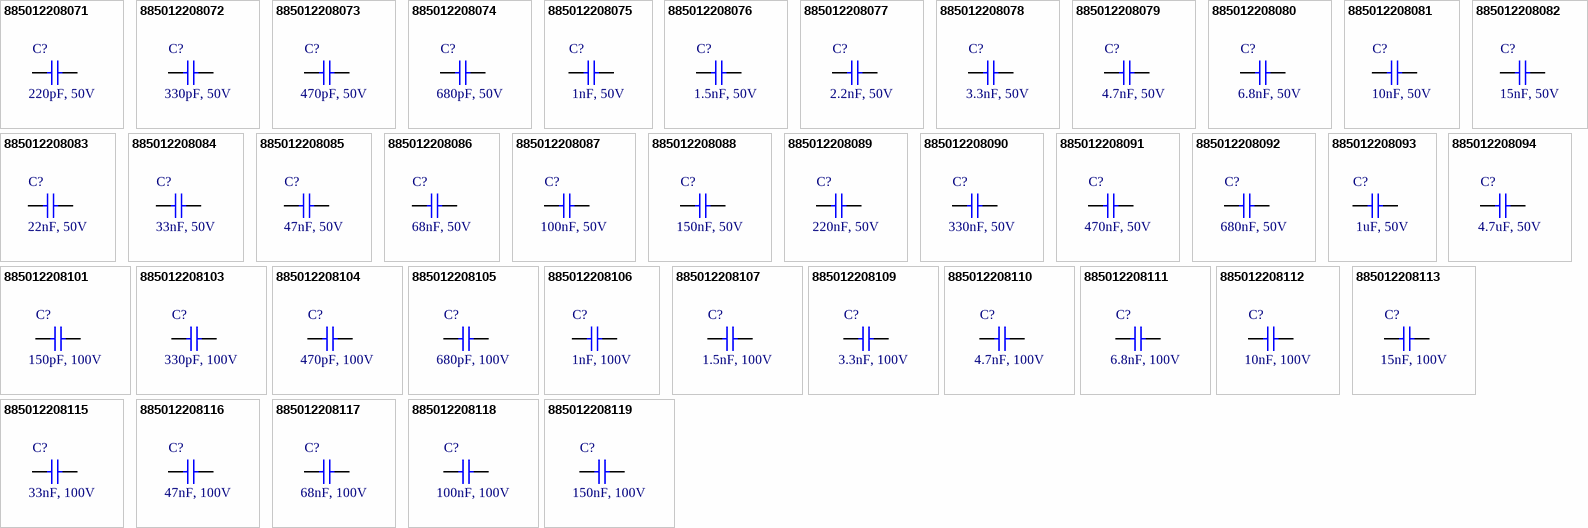
[diagram p21: symbols 885012208071 to 885012208119]

## 885012208071
designator C?, comment 220pF, 50V
WCAP-CSGP Multilayer Ceramic Chip Capacitor, General Purpose, size 1206, X7R, 220pF, 50V; Manufacturer Part Number: 885012208071; Manufacturer: Wurth Elektronik; Rated Voltage: 50VDC; Isolation Resistance: >=10GOhm; Capacitance Tolerance: +/-10%; Technical Reference: X7R1206221K050DFCT10000; ComponentLink1Description: Manufacturer; ComponentLink1URL: http://www.we-online.de; ComponentLink2Description: Datasheet; ComponentLink2URL: https://www.we-online.com/catalog/datasheet/885012208071.pdf; Operating Temperature: -55 to +125degC; Packaging: Tape and Reel; Published Date: May 2020; Ceramic Type: X7R; Dissipation Factor: =<2.5%; Height: 0.8mm; Mounting Technology: SMT; Size: 1206; Capacitance: 220pF
footprint WCAP-CSGP_1206_H=0.8mm
pins: 1, 2

## 885012208072
designator C?, comment 330pF, 50V
WCAP-CSGP Multilayer Ceramic Chip Capacitor, General Purpose, size 1206, X7R, 330pF, 50V; Manufacturer Part Number: 885012208072; Manufacturer: Wurth Elektronik; Rated Voltage: 50VDC; Isolation Resistance: >=10GOhm; Capacitance Tolerance: +/-10%; Technical Reference: X7R1206331K050DFCT10000; ComponentLink1Description: Manufacturer; ComponentLink1URL: http://www.we-online.de; ComponentLink2Description: Datasheet; ComponentLink2URL: https://www.we-online.com/catalog/datasheet/885012208072.pdf; Operating Temperature: -55 to +125degC; Packaging: Tape and Reel; Published Date: May 2020; Ceramic Type: X7R; Dissipation Factor: =<2.5%; Height: 0.8mm; Mounting Technology: SMT; Size: 1206; Capacitance: 330pF
footprint WCAP-CSGP_1206_H=0.8mm
pins: 1, 2

## 885012208073
designator C?, comment 470pF, 50V
WCAP-CSGP Multilayer Ceramic Chip Capacitor, General Purpose, size 1206, X7R, 470pF, 50V; Manufacturer Part Number: 885012208073; Manufacturer: Wurth Elektronik; Rated Voltage: 50VDC; Isolation Resistance: >=10GOhm; Capacitance Tolerance: +/-10%; Technical Reference: X7R1206471K050DFCT10000; ComponentLink1Description: Manufacturer; ComponentLink1URL: http://www.we-online.de; ComponentLink2Description: Datasheet; ComponentLink2URL: https://www.we-online.com/catalog/datasheet/885012208073.pdf; Operating Temperature: -55 to +125degC; Packaging: Tape and Reel; Published Date: May 2020; Ceramic Type: X7R; Dissipation Factor: =<2.5%; Height: 0.8mm; Mounting Technology: SMT; Size: 1206; Capacitance: 470pF
footprint WCAP-CSGP_1206_H=0.8mm
pins: 1, 2

## 885012208074
designator C?, comment 680pF, 50V
WCAP-CSGP Multilayer Ceramic Chip Capacitor, General Purpose, size 1206, X7R, 680pF, 50V; Manufacturer Part Number: 885012208074; Manufacturer: Wurth Elektronik; Rated Voltage: 50VDC; Isolation Resistance: >=10GOhm; Capacitance Tolerance: +/-10%; Technical Reference: X7R1206681K050DFCT10000; ComponentLink1Description: Manufacturer; ComponentLink1URL: http://www.we-online.de; ComponentLink2Description: Datasheet; ComponentLink2URL: https://www.we-online.com/catalog/datasheet/885012208074.pdf; Operating Temperature: -55 to +125degC; Packaging: Tape and Reel; Published Date: May 2020; Ceramic Type: X7R; Dissipation Factor: =<2.5%; Height: 0.8mm; Mounting Technology: SMT; Size: 1206; Capacitance: 680pF
footprint WCAP-CSGP_1206_H=0.8mm
pins: 1, 2

## 885012208075
designator C?, comment 1nF, 50V
WCAP-CSGP Multilayer Ceramic Chip Capacitor, General Purpose, size 1206, X7R, 1nF, 50V; Manufacturer Part Number: 885012208075; Manufacturer: Wurth Elektronik; Rated Voltage: 50VDC; Isolation Resistance: >=10GOhm; Capacitance Tolerance: +/-10%; Technical Reference: X7R1206102K050DFCT10000; ComponentLink1Description: Manufacturer; ComponentLink1URL: http://www.we-online.de; ComponentLink2Description: Datasheet; ComponentLink2URL: https://www.we-online.com/catalog/datasheet/885012208075.pdf; Operating Temperature: -55 to +125degC; Packaging: Tape and Reel; Published Date: May 2020; Ceramic Type: X7R; Dissipation Factor: =<2.5%; Height: 0.8mm; Mounting Technology: SMT; Size: 1206; Capacitance: 1nF
footprint WCAP-CSGP_1206_H=0.8mm
pins: 1, 2

## 885012208076
designator C?, comment 1.5nF, 50V
WCAP-CSGP Multilayer Ceramic Chip Capacitor, General Purpose, size 1206, X7R, 1.5nF, 50V; Manufacturer Part Number: 885012208076; Manufacturer: Wurth Elektronik; Rated Voltage: 50VDC; Isolation Resistance: >=10GOhm; Capacitance Tolerance: +/-10%; Technical Reference: X7R1206152K050DFCT10000; ComponentLink1Description: Manufacturer; ComponentLink1URL: http://www.we-online.de; ComponentLink2Description: Datasheet; ComponentLink2URL: https://www.we-online.com/catalog/datasheet/885012208076.pdf; Operating Temperature: -55 to +125degC; Packaging: Tape and Reel; Published Date: May 2020; Ceramic Type: X7R; Dissipation Factor: =<2.5%; Height: 0.8mm; Mounting Technology: SMT; Size: 1206; Capacitance: 1.5nF
footprint WCAP-CSGP_1206_H=0.8mm
pins: 1, 2

## 885012208077
designator C?, comment 2.2nF, 50V
WCAP-CSGP Multilayer Ceramic Chip Capacitor, General Purpose, size 1206, X7R, 2.2nF, 50V; Manufacturer Part Number: 885012208077; Manufacturer: Wurth Elektronik; Rated Voltage: 50VDC; Isolation Resistance: >=10GOhm; Capacitance Tolerance: +/-10%; Technical Reference: X7R1206222K050DFCT10000; ComponentLink1Description: Manufacturer; ComponentLink1URL: http://www.we-online.de; ComponentLink2Description: Datasheet; ComponentLink2URL: https://www.we-online.com/catalog/datasheet/885012208077.pdf; Operating Temperature: -55 to +125degC; Packaging: Tape and Reel; Published Date: May 2020; Ceramic Type: X7R; Dissipation Factor: =<2.5%; Height: 0.8mm; Mounting Technology: SMT; Size: 1206; Capacitance: 2.2nF
footprint WCAP-CSGP_1206_H=0.8mm
pins: 1, 2

## 885012208078
designator C?, comment 3.3nF, 50V
WCAP-CSGP Multilayer Ceramic Chip Capacitor, General Purpose, size 1206, X7R, 3.3nF, 50V; Manufacturer Part Number: 885012208078; Manufacturer: Wurth Elektronik; Rated Voltage: 50VDC; Isolation Resistance: >=10GOhm; Capacitance Tolerance: +/-10%; Technical Reference: X7R1206332K050DFCT10000; ComponentLink1Description: Manufacturer; ComponentLink1URL: http://www.we-online.de; ComponentLink2Description: Datasheet; ComponentLink2URL: https://www.we-online.com/catalog/datasheet/885012208078.pdf; Operating Temperature: -55 to +125degC; Packaging: Tape and Reel; Published Date: May 2020; Ceramic Type: X7R; Dissipation Factor: =<2.5%; Height: 0.8mm; Mounting Technology: SMT; Size: 1206; Capacitance: 3.3nF
footprint WCAP-CSGP_1206_H=0.8mm
pins: 1, 2

## 885012208079
designator C?, comment 4.7nF, 50V
WCAP-CSGP Multilayer Ceramic Chip Capacitor, General Purpose, size 1206, X7R, 4.7nF, 50V; Manufacturer Part Number: 885012208079; Manufacturer: Wurth Elektronik; Rated Voltage: 50VDC; Isolation Resistance: >=10GOhm; Capacitance Tolerance: +/-10%; Technical Reference: X7R1206472K050DFCT10000; ComponentLink1Description: Manufacturer; ComponentLink1URL: http://www.we-online.de; ComponentLink2Description: Datasheet; ComponentLink2URL: https://www.we-online.com/catalog/datasheet/885012208079.pdf; Operating Temperature: -55 to +125degC; Packaging: Tape and Reel; Published Date: May 2020; Ceramic Type: X7R; Dissipation Factor: =<2.5%; Height: 0.8mm; Mounting Technology: SMT; Size: 1206; Capacitance: 4.7nF
footprint WCAP-CSGP_1206_H=0.8mm
pins: 1, 2

## 885012208080
designator C?, comment 6.8nF, 50V
WCAP-CSGP Multilayer Ceramic Chip Capacitor, General Purpose, size 1206, X7R, 6.8nF, 50V; Manufacturer Part Number: 885012208080; Manufacturer: Wurth Elektronik; Rated Voltage: 50VDC; Isolation Resistance: >=10GOhm; Capacitance Tolerance: +/-10%; Technical Reference: X7R1206682K050DFCT10000; ComponentLink1Description: Manufacturer; ComponentLink1URL: http://www.we-online.de; ComponentLink2Description: Datasheet; ComponentLink2URL: https://www.we-online.com/catalog/datasheet/885012208080.pdf; Operating Temperature: -55 to +125degC; Packaging: Tape and Reel; Published Date: May 2020; Ceramic Type: X7R; Dissipation Factor: =<2.5%; Height: 0.8mm; Mounting Technology: SMT; Size: 1206; Capacitance: 6.8nF
footprint WCAP-CSGP_1206_H=0.8mm
pins: 1, 2

## 885012208081
designator C?, comment 10nF, 50V
WCAP-CSGP Multilayer Ceramic Chip Capacitor, General Purpose, size 1206, X7R, 10nF, 50V; Manufacturer Part Number: 885012208081; Manufacturer: Wurth Elektronik; Rated Voltage: 50VDC; Isolation Resistance: >=10GOhm; Capacitance Tolerance: +/-10%; Technical Reference: X7R1206103K050DFCT10000; ComponentLink1Description: Manufacturer; ComponentLink1URL: http://www.we-online.de; ComponentLink2Description: Datasheet; ComponentLink2URL: https://www.we-online.com/catalog/datasheet/885012208081.pdf; Operating Temperature: -55 to +125degC; Packaging: Tape and Reel; Published Date: May 2020; Ceramic Type: X7R; Dissipation Factor: =<2.5%; Height: 0.8mm; Mounting Technology: SMT; Size: 1206; Capacitance: 10nF
footprint WCAP-CSGP_1206_H=0.8mm
pins: 1, 2

## 885012208082
designator C?, comment 15nF, 50V
WCAP-CSGP Multilayer Ceramic Chip Capacitor, General Purpose, size 1206, X7R, 15nF, 50V; Manufacturer Part Number: 885012208082; Manufacturer: Wurth Elektronik; Rated Voltage: 50VDC; Isolation Resistance: >=10GOhm; Capacitance Tolerance: +/-10%; Technical Reference: X7R1206153K050DFCT10000; ComponentLink1Description: Manufacturer; ComponentLink1URL: http://www.we-online.de; ComponentLink2Description: Datasheet; ComponentLink2URL: https://www.we-online.com/catalog/datasheet/885012208082.pdf; Operating Temperature: -55 to +125degC; Packaging: Tape and Reel; Published Date: May 2020; Ceramic Type: X7R; Dissipation Factor: =<2.5%; Height: 0.8mm; Mounting Technology: SMT; Size: 1206; Capacitance: 15nF
footprint WCAP-CSGP_1206_H=0.8mm
pins: 1, 2

## 885012208083
designator C?, comment 22nF, 50V
WCAP-CSGP Multilayer Ceramic Chip Capacitor, General Purpose, size 1206, X7R, 22nF, 50V; Manufacturer Part Number: 885012208083; Manufacturer: Wurth Elektronik; Rated Voltage: 50VDC; Isolation Resistance: >=10GOhm; Capacitance Tolerance: +/-10%; Technical Reference: X7R1206223K050DFCT10000; ComponentLink1Description: Manufacturer; ComponentLink1URL: http://www.we-online.de; ComponentLink2Description: Datasheet; ComponentLink2URL: https://www.we-online.com/catalog/datasheet/885012208083.pdf; Operating Temperature: -55 to +125degC; Packaging: Tape and Reel; Published Date: May 2020; Ceramic Type: X7R; Dissipation Factor: =<2.5%; Height: 0.8mm; Mounting Technology: SMT; Size: 1206; Capacitance: 22nF
footprint WCAP-CSGP_1206_H=0.8mm
pins: 1, 2

## 885012208084
designator C?, comment 33nF, 50V
WCAP-CSGP Multilayer Ceramic Chip Capacitor, General Purpose, size 1206, X7R, 33nF, 50V; Manufacturer Part Number: 885012208084; Manufacturer: Wurth Elektronik; Rated Voltage: 50VDC; Isolation Resistance: >=10GOhm; Capacitance Tolerance: +/-10%; Technical Reference: X7R1206333K050DFCT10000; ComponentLink1Description: Manufacturer; ComponentLink1URL: http://www.we-online.de; ComponentLink2Description: Datasheet; ComponentLink2URL: https://www.we-online.com/catalog/datasheet/885012208084.pdf; Operating Temperature: -55 to +125degC; Packaging: Tape and Reel; Published Date: May 2020; Ceramic Type: X7R; Dissipation Factor: =<2.5%; Height: 0.8mm; Mounting Technology: SMT; Size: 1206; Capacitance: 33nF
footprint WCAP-CSGP_1206_H=0.8mm
pins: 1, 2

## 885012208085
designator C?, comment 47nF, 50V
WCAP-CSGP Multilayer Ceramic Chip Capacitor, General Purpose, size 1206, X7R, 47nF, 50V; Manufacturer Part Number: 885012208085; Manufacturer: Wurth Elektronik; Rated Voltage: 50VDC; Isolation Resistance: >=10GOhm; Capacitance Tolerance: +/-10%; Technical Reference: X7R1206473K050DFCT10000; ComponentLink1Description: Manufacturer; ComponentLink1URL: http://www.we-online.de; ComponentLink2Description: Datasheet; ComponentLink2URL: https://www.we-online.com/catalog/datasheet/885012208085.pdf; Operating Temperature: -55 to +125degC; Packaging: Tape and Reel; Published Date: May 2020; Ceramic Type: X7R; Dissipation Factor: =<2.5%; Height: 0.8mm; Mounting Technology: SMT; Size: 1206; Capacitance: 47nF
footprint WCAP-CSGP_1206_H=0.8mm
pins: 1, 2

## 885012208086
designator C?, comment 68nF, 50V
WCAP-CSGP Multilayer Ceramic Chip Capacitor, General Purpose, size 1206, X7R, 68nF, 50V; Manufacturer Part Number: 885012208086; Manufacturer: Wurth Elektronik; Rated Voltage: 50VDC; Isolation Resistance: >=7.4GOhm; Capacitance Tolerance: +/-10%; Technical Reference: X7R1206683K050DFCT10000; ComponentLink1Description: Manufacturer; ComponentLink1URL: http://www.we-online.de; ComponentLink2Description: Datasheet; ComponentLink2URL: https://www.we-online.com/catalog/datasheet/885012208086.pdf; Operating Temperature: -55 to +125degC; Packaging: Tape and Reel; Published Date: May 2020; Ceramic Type: X7R; Dissipation Factor: =<2.5%; Height: 0.8mm; Mounting Technology: SMT; Size: 1206; Capacitance: 68nF
footprint WCAP-CSGP_1206_H=0.8mm
pins: 1, 2

## 885012208087
designator C?, comment 100nF, 50V
WCAP-CSGP Multilayer Ceramic Chip Capacitor, General Purpose, size 1206, X7R, 100nF, 50V; Manufacturer Part Number: 885012208087; Manufacturer: Wurth Elektronik; Rated Voltage: 50VDC; Isolation Resistance: >=5GOhm; Capacitance Tolerance: +/-10%; Technical Reference: X7R1206104K050DFCT10000; ComponentLink1Description: Manufacturer; ComponentLink1URL: http://www.we-online.de; ComponentLink2Description: Datasheet; ComponentLink2URL: https://www.we-online.com/catalog/datasheet/885012208087.pdf; Operating Temperature: -55 to +125degC; Packaging: Tape and Reel; Published Date: May 2020; Ceramic Type: X7R; Dissipation Factor: =<2.5%; Height: 0.8mm; Mounting Technology: SMT; Size: 1206; Capacitance: 100nF
footprint WCAP-CSGP_1206_H=0.8mm
pins: 1, 2